# Altium footprint library Michel.PcbLib: 60 footprints (part 3 of 4)
Each footprint in its own frame and in the unit in brackets; x right, y up, seen from the top. Pads: shape width x height; smd on the part's side, far side on the other; paste and mask are expansions set on the pad; w line width, h text height; cw(c..) or ccw(c..) is an arc to the next point about the centre after c.
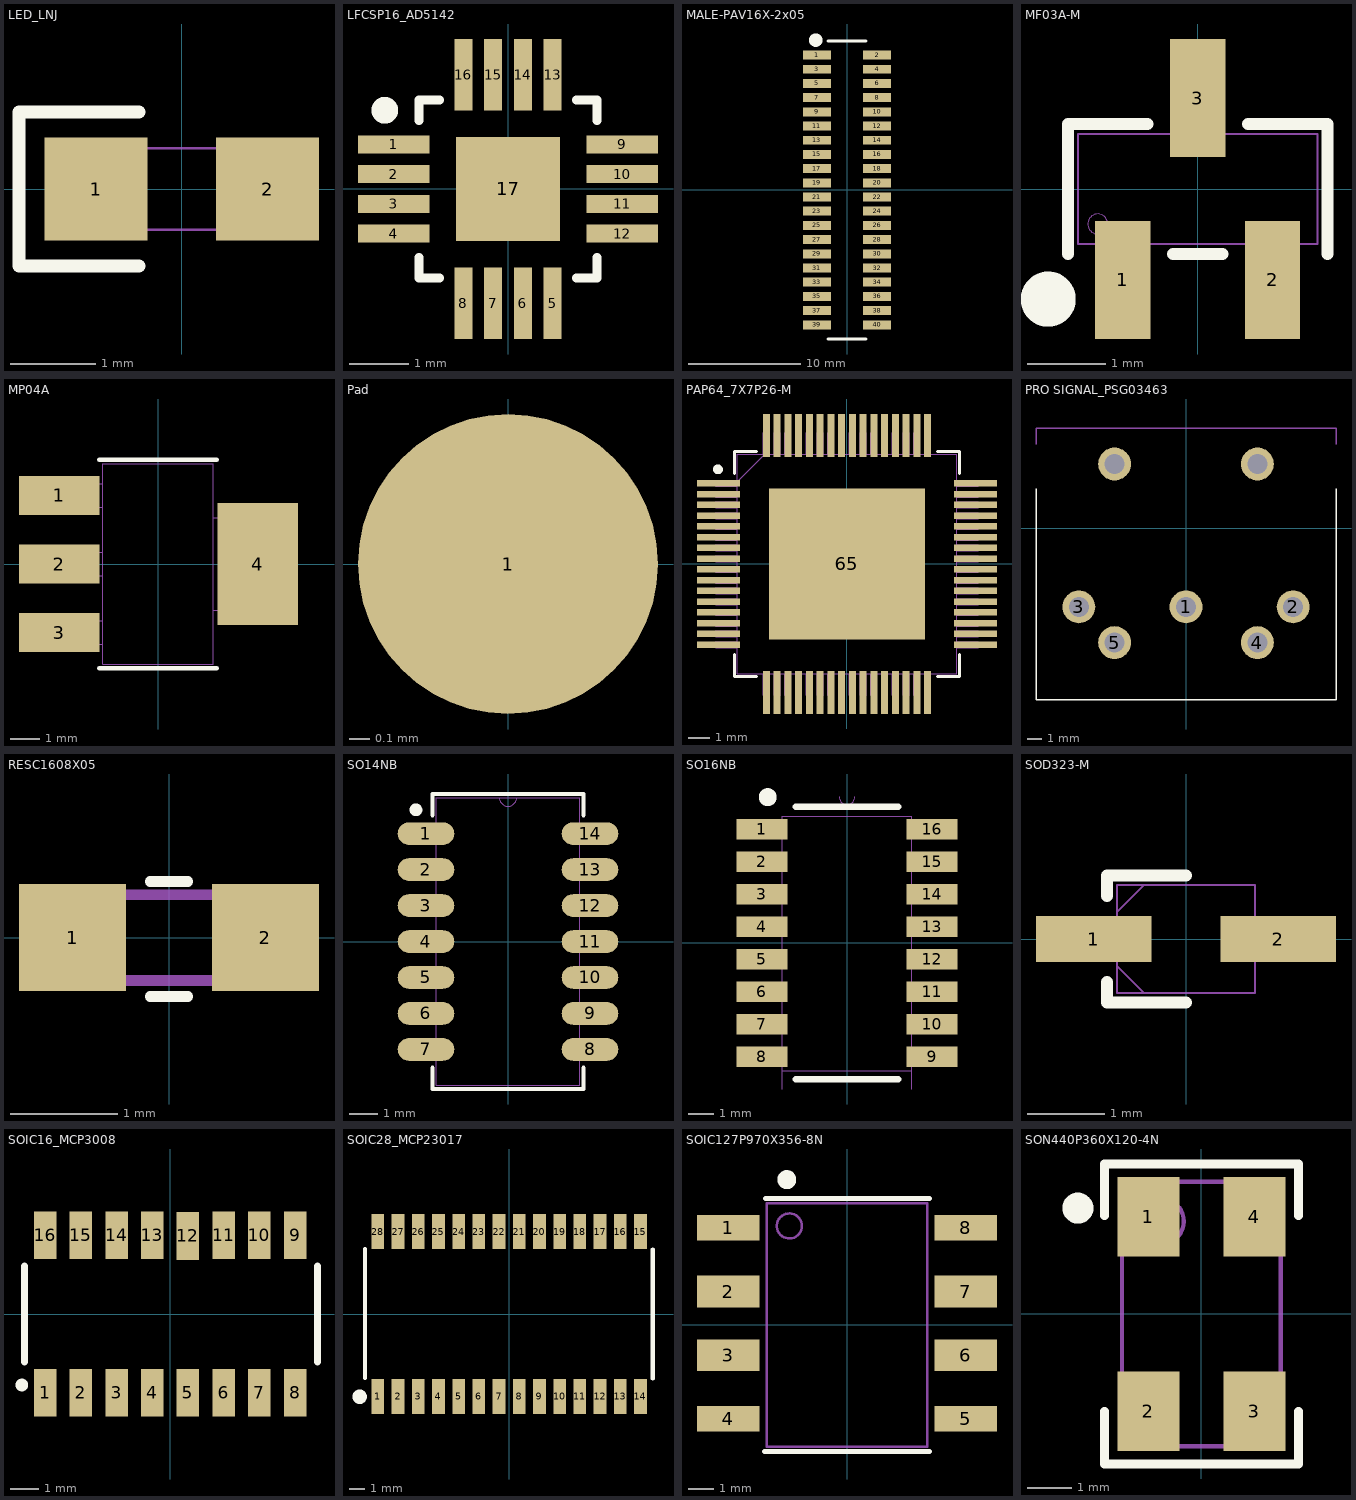
[diagram p2: the footprints below, top view; thin cyan lines are the x and y axes]

## LED_LNJ [mm] "CMS_2"
pads (2):
  rect 1.2x1.2 smd paste+0: 1(-1,0) 2(1,0)
Top Overlay:
  lines w0.152: -0.5,-0.9 -1.9,-0.9 -1.9,0.9 -0.5,0.9
Mechanical 13:
  lines w0.025: -0.875,-0.475 -0.875,0.475 0.875,0.475 0.875,-0.475 -0.875,-0.475
3D body: height 0.25, standoff 0, extent 0,0 0.254,0.254
3D body "LED_LNJ.step": height 0.42, standoff 0, extent -0.875,-0.475 0.875,0.475

## LFCSP16_AD5142 [mm] "LFCSP_16"
pads (17):
  rect 1.2x0.3 smd: 1(-1.925,0.75) 2(-1.925,0.25) 3(-1.925,-0.25) 4(-1.925,-0.75) 9(1.925,0.75) 10(1.925,0.25) 11(1.925,-0.25) 12(1.925,-0.75)
  rect 0.3x1.2 smd: 5(0.75,-1.925) 6(0.25,-1.925) 7(-0.25,-1.925) 8(-0.75,-1.925) 13(0.75,1.925) 14(0.25,1.925) 15(-0.25,1.925) 16(-0.75,1.925)
  rect 1.75x1.75 smd: 17(0,0)
Top Overlay:
  circle w0.25: c-2.075,1.325 r0.1
  lines w0.15: -1.5,-1.15 -1.5,-1.5 -1.15,-1.5 ; -1.5,1.15 -1.5,1.5 -1.15,1.5 ; 1.15,-1.5 1.5,-1.5 1.5,-1.15 ; 1.15,1.5 1.5,1.5 1.5,1.15

## MALE-PAV16X-2x05 [mm] "Header_2x20"
height 2.4
pads (40):
  rect 2.5x0.8 smd: 1(-2.7,12.065) 2(2.7,12.065) 3(-2.7,10.795) 4(2.7,10.795) 5(-2.7,9.525) 6(2.7,9.525) 7(-2.7,8.255) 8(2.7,8.255) 9(-2.7,6.985) 10(2.7,6.985) 11(-2.7,5.715) 12(2.7,5.715) 13(-2.7,4.445) 14(2.7,4.445) 15(-2.7,3.175) 16(2.7,3.175) 17(-2.7,1.905) 18(2.7,1.905) 19(-2.7,0.635) 20(2.7,0.635) 21(-2.7,-0.635) 22(2.7,-0.635) 23(-2.7,-1.905) 24(2.7,-1.905) 25(-2.7,-3.175) 26(2.7,-3.175) 27(-2.7,-4.445) 28(2.7,-4.445) 29(-2.7,-5.715) 30(2.7,-5.715) 31(-2.7,-6.985) 32(2.7,-6.985) 33(-2.7,-8.255) 34(2.7,-8.255) 35(-2.7,-9.525) 36(2.7,-9.525) 37(-2.7,-10.795) 38(2.7,-10.795) 39(-2.7,-12.065) 40(2.7,-12.065)
Top Overlay:
  circle w1: c-2.8,13.4 r0.1
  lines w0.254: -1.7,-13.335 1.7,-13.335 ; -1.7,13.335 1.7,13.335

## MF03A-M [mm] "SOT-23_3"
pads (3):
  rect 0.7x1.5 smd paste+0: 1(-0.953,-1.156) 2(0.953,-1.156) 3(0,1.156)
Top Overlay:
  circle w0.5: c-1.9,-1.4 r0.1
  lines w0.152: -1.651,-0.826 -1.651,0.826 -0.638,0.826 ; -0.315,-0.826 0.315,-0.826 ; 0.638,0.826 1.651,0.826 1.651,-0.826
Mechanical 13:
  circle w0: c-1.27,-0.445 r0.127
  lines w0.025: -1.524,-0.699 1.524,-0.699 1.524,0.699 -1.524,0.699 -1.524,-0.699 ; -1.206,-1.321 -1.206,-0.699 -0.699,-0.699 -0.699,-1.321 -1.206,-1.321 ; -0.254,0.699 0.254,0.699 0.254,1.321 -0.254,1.321 -0.254,0.699 ; 0.699,-1.321 0.699,-0.699 1.206,-0.699 1.206,-1.321 0.699,-1.321

## MP04A [mm] "SOT-223_4"
pads (4):
  rect 2.7x1.3 smd paste+0: 1(-3.308,2.3) 2(-3.308,0) 3(-3.308,-2.3)
  rect 2.7x4.1 smd paste+0: 4(3.345,0)
Top Overlay:
  lines w0.152: -1.975,-3.5 1.962,-3.5 ; -1.962,3.5 1.975,3.5
Mechanical 13:
  lines w0.025: -3.645,-2.694 -3.645,-1.906 -1.854,-1.906 -1.854,-2.694 -3.645,-2.694 ; -3.645,-0.394 -3.645,0.394 -1.854,0.394 -1.854,-0.394 -3.645,-0.394 ; -3.645,1.906 -3.645,2.694 -1.854,2.694 -1.854,1.906 -3.645,1.906 ; -1.854,-3.353 1.854,-3.353 1.854,3.353 -1.854,3.353 -1.854,-3.353 ; 1.854,-1.549 1.854,1.549 3.645,1.549 3.645,-1.549 1.854,-1.549
  text "*" at -1.918,1.957 h1.27
3D body: height 0.25, standoff 0, extent 0,0 0.254,0.254
3D body "MP04A.step": height 1.81, standoff 0, extent -3.645,-3.353 3.645,3.353

## Pad [mm]
pads (1):
  round 1.5 smd paste-5: 1(0,0)

## PAP64_7X7P26-M [mm] "HTQFP_64"
pads (65):
  rect 2x0.3 smd mask+0.04: 1(-5.976,3.75) 2(-5.976,3.25) 3(-5.976,2.75) 4(-5.976,2.25) 5(-5.976,1.75) 6(-5.976,1.25) 7(-5.976,0.75) 8(-5.976,0.25) 9(-5.976,-0.25) 10(-5.976,-0.75) 11(-5.976,-1.25) 12(-5.976,-1.75) 13(-5.976,-2.25) 14(-5.976,-2.75) 15(-5.976,-3.25) 16(-5.976,-3.75) 33(5.976,-3.75) 34(5.976,-3.25) 35(5.976,-2.75) 36(5.976,-2.25) 37(5.976,-1.75) 38(5.976,-1.25) 39(5.976,-0.75) 40(5.976,-0.25) 41(5.976,0.25) 42(5.976,0.75) 43(5.976,1.25) 44(5.976,1.75) 45(5.976,2.25) 46(5.976,2.75) 47(5.976,3.25) 48(5.976,3.75)
  rect 0.32x2 smd mask+0.04: 17(-3.75,-5.976) 18(-3.25,-5.976) 19(-2.75,-5.976) 20(-2.25,-5.976) 21(-1.75,-5.976) 22(-1.25,-5.976) 23(-0.75,-5.976) 24(-0.25,-5.976) 25(0.25,-5.976) 26(0.75,-5.976) 27(1.25,-5.976) 28(1.75,-5.976) 29(2.25,-5.976) 30(2.75,-5.976) 31(3.25,-5.976) 32(3.75,-5.976) 49(3.75,5.976) 50(3.25,5.976) 51(2.75,5.976) 52(2.25,5.976) 53(1.75,5.976) 54(1.25,5.976) 55(0.75,5.976) 56(0.25,5.976) 57(-0.25,5.976) 58(-0.75,5.976) 59(-1.25,5.976) 60(-1.75,5.976) 61(-2.25,5.976) 62(-2.75,5.976) 63(-3.25,5.976) 64(-3.75,5.976)
  rect 7.26x7 smd paste-3.617 mask-3.619: 65(0,0)
Top Overlay:
  circle w0.25: c-6,4.4 r0.1
  lines w0.152: -5.227,-4.218 -5.227,-5.227 -4.218,-5.227 ; -5.227,4.218 -5.227,5.227 -4.218,5.227 ; 4.218,-5.227 5.227,-5.227 5.227,-4.218 ; 4.218,5.227 5.227,5.227 5.227,4.218
Top Paste:
  drawing of 90 lines, arcs and shapes, not listed
Top Solder:
  region: 3.35,-3.564 3.35,3.564 3.694,3.564 3.694,-3.564
  region: 2.95,-3.564 2.95,3.564 2.562,3.564 2.562,-3.564
  region: 2.162,-3.564 2.162,3.564 1.775,3.564 1.775,-3.564
  region: 1.375,-3.564 1.375,3.564 0.987,3.564 0.987,-3.564
  region: 0.587,-3.564 0.587,3.564 0.2,3.564 0.2,-3.564
  region: -0.2,-3.564 -0.2,3.564 -0.587,3.564 -0.587,-3.564
  region: -0.987,-3.564 -0.987,3.564 -1.375,3.564 -1.375,-3.564
  region: -1.775,-3.564 -1.775,3.564 -2.162,3.564 -2.162,-3.564
  region: -2.562,-3.564 -2.562,3.564 -2.95,3.564 -2.95,-3.564
  region: -3.694,-3.564 -3.694,3.564 -3.35,3.564 -3.35,-3.564
  region: -3.694,-3.564 -3.694,-2.956 3.694,-2.956 3.694,-3.564
  region: -3.694,-2.556 -3.694,-2.168 3.694,-2.168 3.694,-2.556
  region: -3.694,-1.769 -3.694,-1.381 3.694,-1.381 3.694,-1.769
  region: -3.694,-0.981 -3.694,-0.594 3.694,-0.594 3.694,-0.981
  region: -3.694,-0.194 -3.694,0.194 3.694,0.194 3.694,-0.194
  region: -3.694,0.594 -3.694,0.981 3.694,0.981 3.694,0.594
  region: -3.694,1.381 -3.694,1.769 3.694,1.769 3.694,1.381
  region: -3.694,2.168 -3.694,2.556 3.694,2.556 3.694,2.168
  region: -3.694,2.956 -3.694,3.564 3.694,3.564 3.694,2.956
Mechanical 13:
  drawing of 261 lines, arcs and shapes, not listed
  text "*" at -5.036,3.365 h1.27
Mechanical 16:
  circle w0.127: c3.15,2.756 r0.191
  circle w0.127: c3.15,1.968 r0.191
  circle w0.127: c3.15,1.181 r0.191
  circle w0.127: c3.15,0.394 r0.191
  circle w0.127: c3.15,-0.394 r0.191
  circle w0.127: c3.15,-1.181 r0.191
  circle w0.127: c3.15,-1.968 r0.191
  circle w0.127: c3.15,-2.756 r0.191
  circle w0.127: c2.362,2.756 r0.191
  circle w0.127: c2.362,1.968 r0.191
  circle w0.127: c2.362,1.181 r0.191
  circle w0.127: c2.362,0.394 r0.191
  circle w0.127: c2.362,-0.394 r0.191
  circle w0.127: c2.362,-1.181 r0.191
  circle w0.127: c2.362,-1.968 r0.191
  circle w0.127: c2.362,-2.756 r0.191
  circle w0.127: c1.575,2.756 r0.191
  circle w0.127: c1.575,1.968 r0.191
  circle w0.127: c1.575,1.181 r0.191
  circle w0.127: c1.575,0.394 r0.191
  circle w0.127: c1.575,-0.394 r0.191
  circle w0.127: c1.575,-1.181 r0.191
  circle w0.127: c1.575,-1.968 r0.191
  circle w0.127: c1.575,-2.756 r0.191
  circle w0.127: c0.787,2.756 r0.191
  circle w0.127: c0.787,1.968 r0.191
  circle w0.127: c0.787,1.181 r0.191
  circle w0.127: c0.787,0.394 r0.191
  circle w0.127: c0.787,-0.394 r0.191
  circle w0.127: c0.787,-1.181 r0.191
  circle w0.127: c0.787,-1.968 r0.191
  circle w0.127: c0.787,-2.756 r0.191
  circle w0.127: c0,2.756 r0.191
  circle w0.127: c0,1.968 r0.191
  circle w0.127: c0,1.181 r0.191
  circle w0.127: c0,0.394 r0.191
  circle w0.127: c0,-0.394 r0.191
  circle w0.127: c0,-1.181 r0.191
  circle w0.127: c0,-1.968 r0.191
  circle w0.127: c0,-2.756 r0.191
  circle w0.127: c-0.787,2.756 r0.191
  circle w0.127: c-0.787,1.968 r0.191
  circle w0.127: c-0.787,1.181 r0.191
  circle w0.127: c-0.787,0.394 r0.191
  circle w0.127: c-0.787,-0.394 r0.191
  circle w0.127: c-0.787,-1.181 r0.191
  circle w0.127: c-0.787,-1.968 r0.191
  circle w0.127: c-0.787,-2.756 r0.191
  circle w0.127: c-1.575,2.756 r0.191
  circle w0.127: c-1.575,1.968 r0.191
  circle w0.127: c-1.575,1.181 r0.191
  circle w0.127: c-1.575,0.394 r0.191
  circle w0.127: c-1.575,-0.394 r0.191
  circle w0.127: c-1.575,-1.181 r0.191
  circle w0.127: c-1.575,-1.968 r0.191
  circle w0.127: c-1.575,-2.756 r0.191
  circle w0.127: c-2.362,2.756 r0.191
  circle w0.127: c-2.362,1.968 r0.191
  circle w0.127: c-2.362,1.181 r0.191
  circle w0.127: c-2.362,0.394 r0.191
  circle w0.127: c-2.362,-0.394 r0.191
  circle w0.127: c-2.362,-1.181 r0.191
  circle w0.127: c-2.362,-1.968 r0.191
  circle w0.127: c-2.362,-2.756 r0.191
  circle w0.127: c-3.15,2.756 r0.191
  circle w0.127: c-3.15,1.968 r0.191
  circle w0.127: c-3.15,1.181 r0.191
  circle w0.127: c-3.15,0.394 r0.191
  circle w0.127: c-3.15,-0.394 r0.191
  circle w0.127: c-3.15,-1.181 r0.191
  circle w0.127: c-3.15,-1.968 r0.191
  circle w0.127: c-3.15,-2.756 r0.191
3D body "PAP64_7X7P26-M.step": height 1.2, standoff 0, extent -6.1,-6.104 6.1,6.096
3D body: height 0.25, standoff 0, extent 0,0 0.254,0.254

## PRO SIGNAL_PSG03463 [mm] "Through-Hole_7"
pads (7):
  round 2.3 hole 1.4: 1(0,-5.5) 2(7.5,-5.5) 3(-7.5,-5.5) 4(5,-8) 5(-5,-8) ""(-5,4.5) ""(5,4.5)
Top Overlay:
  lines w0.1: -10.5,2.75 -10.5,-12 10.5,-12 10.5,2.75
Mechanical 1:
  lines w0.1: -10.5,5.882 -10.5,7 10.5,7 10.5,5.882
3D body "MIDI.step": height -0.46, standoff -19.96, extent -10.5,-12 10.5,7

## RESC1608X05 [mm] "CMS_2 ; Chip Resistor, 2-Leads, Body 1.60x0.80mm, IPC Medium Density"
height 0.45
pads (2):
  rect 1x1 smd: 1(-0.9,0) 2(0.9,0)
Top Overlay:
  lines w0.1: -0.175,-0.55 0.175,-0.55 ; -0.175,0.525 0.175,0.525
Mechanical 1:
  lines w0.1: -0.8,-0.4 -0.8,0.4 0.8,0.4 0.8,-0.4 -0.8,-0.4
3D body: height 0.45, standoff 0, extent -0.5,-0.4 0.5,0.4
3D body: height 0.45, standoff 0, extent -0.8,-0.4 -0.5,0.4
3D body: height 0.45, standoff 0, extent 0.5,-0.4 0.8,0.4

## SO14NB [mm]
pads (14):
  oval 2x0.8 smd paste+0: 1(-2.896,3.81) 2(-2.896,2.54) 3(-2.896,1.27) 4(-2.896,0) 5(-2.896,-1.27) 6(-2.896,-2.54) 7(-2.896,-3.81) 8(2.896,-3.81) 9(2.896,-2.54) 10(2.896,-1.27) 11(2.896,0) 12(2.896,1.27) 13(2.896,2.54) 14(2.896,3.81)
Top Overlay:
  circle w0.25: c-3.25,4.65 r0.1
  lines w0.152: -2.667,-4.46 -2.667,-5.207 2.667,-5.207 2.667,-4.46 ; -2.667,4.46 -2.667,5.207 2.667,5.207 2.667,4.46
Mechanical 13:
  lines w0: -0.305,5.08 ccw(c0,5.08) 0.305,5.08
  lines w0.025: -2.54,-5.08 -2.54,5.08 2.54,5.08 2.54,-5.08 -2.54,-5.08
3D body: height 0.25, standoff 0, extent 0,0 0.254,0.254
3D body "SO14NB.step": height 1.7, standoff 0, extent -3.46,-5.08 3.46,5.08

## SO16NB [mm] "SOIC_16"
pads (16):
  rect 2x0.8 smd paste+0: 1(-3.331,4.445) 2(-3.331,3.175) 3(-3.331,1.905) 4(-3.331,0.635) 5(-3.331,-0.635) 6(-3.331,-1.905) 7(-3.331,-3.175) 8(-3.331,-4.445) 9(3.331,-4.445) 10(3.331,-3.175) 11(3.331,-1.905) 12(3.331,-0.635) 13(3.331,0.635) 14(3.331,1.905) 15(3.331,3.175) 16(3.331,4.445)
Top Overlay:
  circle w0.5: c-3.1,5.7 r0.1
  lines w0.254: -2,-5.334 2,-5.334 ; -2,5.334 2,5.334
Mechanical 13:
  lines w0: -0.305,5.715 ccw(c0,5.715) 0.305,5.715
  lines w0.025: -2.54,-5.715 -2.54,4.953 2.54,4.953 2.54,-5.715 ; -2.54,-5 2.54,-5
3D body: height 0.25, standoff 0, extent 0,0 0.254,0.254
3D body "SO16NB.step": height 1.7, standoff 0, extent -3.46,-5.762 3.46,5.668

## SOD323-M [mm] "SOD-323F_2"
pads (2):
  rect 1.5x0.6 smd paste+0: 1(-1.201,0) 2(1.201,0)
Top Overlay:
  lines w0.152: -1.027,-0.559 -1.027,-0.827 0,-0.827 ; -1.027,0.559 -1.027,0.827 0,0.827
Mechanical 13:
  lines w0.025: -0.9,-0.35 -0.55,-0.7 ; -0.9,0.35 -0.55,0.7 ; -1.35,-0.175 -1.35,0.175 -0.9,0.175 -0.9,-0.175 -1.35,-0.175 ; -0.9,-0.7 0.9,-0.7 0.9,0.7 -0.9,0.7 -0.9,-0.7 ; 0.9,-0.175 0.9,0.175 1.35,0.175 1.35,-0.175 0.9,-0.175
  text "*" at -0.964,-0.635 h1.27
3D body "SOD323-M.step": height 0.81, standoff 0, extent -1.35,-0.7 1.35,0.7
3D body: height 0.25, standoff 0, extent 0,0 0.254,0.254

## SOIC16_MCP3008 [mm] "SOIC_16"
pads (16):
  rect 0.8x1.7 smd: 1(-4.445,-2.8) 2(-3.175,-2.8) 3(-1.905,-2.8) 4(-0.635,-2.8) 5(0.635,-2.8) 6(1.905,-2.8) 7(3.175,-2.8) 8(4.445,-2.8) 9(4.445,2.8) 10(3.175,2.8) 11(1.905,2.8) 12(0.635,2.775) 13(-0.635,2.8) 14(-1.905,2.8) 15(-3.175,2.8) 16(-4.445,2.8)
Top Overlay:
  circle w0.25: c-5.275,-2.525 r0.1
  lines w0.254: -5.185,-1.7 -5.185,1.7 ; 5.24,-1.7 5.24,1.7

## SOIC28_MCP23017 [mm] "SOIC_28"
pads (28):
  rect 0.8x2.2 smd: 1(-8.255,-5.175) 2(-6.985,-5.175) 3(-5.715,-5.175) 4(-4.445,-5.175) 5(-3.175,-5.175) 6(-1.905,-5.175) 7(-0.635,-5.175) 8(0.635,-5.175) 9(1.905,-5.175) 10(3.175,-5.175) 11(4.445,-5.175) 12(5.715,-5.175) 13(6.985,-5.175) 14(8.255,-5.175) 15(8.255,5.175) 16(6.985,5.175) 17(5.715,5.175) 18(4.445,5.175) 19(3.175,5.175) 20(1.905,5.175) 21(0.635,5.175) 22(-0.635,5.175) 23(-1.905,5.175) 24(-3.175,5.175) 25(-4.445,5.175) 26(-5.715,5.175) 27(-6.985,5.175) 28(-8.255,5.175)
Top Overlay:
  circle w0.7: c-9.4,-5.2 r0.1
  lines w0.254: -9.05,-4.025 -9.05,4.075 ; 9.025,-4.05 9.025,4.05

## SOIC127P970X356-8N [mm] "DIP-SURFACE_8 ; SOIC, 8-Leads, Body 9.65x6.35mm, Pitch 1.27mm, IPC Medium Density"
height 3.56
pads (8):
  rect 2.5x1.016 smd: 1(-4.735,3.875) 4(-4.735,-3.745) 5(4.735,-3.745) 8(4.735,3.875)
  rect 2.5x1.27 smd: 2(-4.735,1.335) 3(-4.735,-1.205) 6(4.735,-1.205) 7(4.735,1.335)
Top Overlay:
  circle w0.5: c-2.4,5.8 r0.125
  lines w0.2: -3.3,-5.05 3.3,-5.05 ; -3.25,5.05 3.3,5.05
Mechanical 13:
  circle w0.1: c-2.3,3.95 r0.5
  lines w0.1: -3.2,-4.85 -3.2,4.85 3.2,4.85 3.2,-4.85 -3.2,-4.85
3D body: height 3.56, standoff 0.64, extent -3.2,-4.85 3.2,4.85

## SON440P360X120-4N [mm] "SON, 4-Leads, Body 6.00x3.60mm, Pitch 4.40mm, IPC Medium Density"
height 1.2
pads (4):
  rect 1.4x1.8 smd: 1(-1.2,2.2) 2(-1.2,-2.2) 3(1.2,-2.2) 4(1.2,2.2)
Top Overlay:
  circle w0.5: c-2.8,2.4 r0.1
  lines w0.2: -2.2,-2.205 -2.2,-3.4 2.2,-3.4 2.2,-2.205 ; -2.2,2.23 -2.2,3.4 2.2,3.4 2.2,2.23
Mechanical 13:
  circle w0.1: c-0.9,2.1 r0.5
  lines w0.1: -1.8,-3 1.8,-3 1.8,3 -1.8,3 -1.8,-3
3D body: height 1.2, standoff 0, extent -1.8,-3 1.8,3